# EAGLE library part CYPD3177 (library ds_ic_peripherals)
USB Type-C Port Controller for Power Sinks
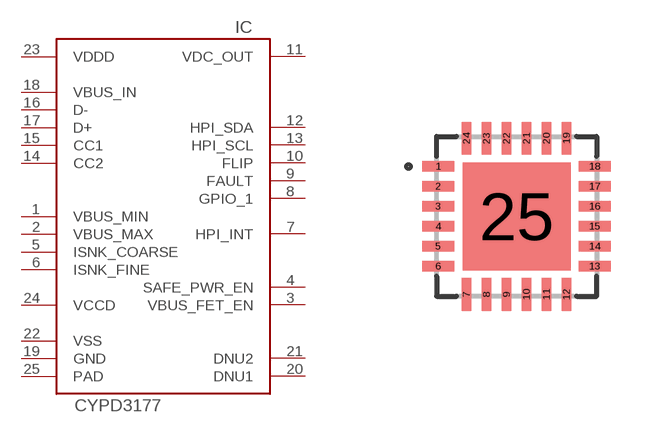
[diagram p53: symbol with the pads of QFN24; footprint QFN24]

Designator prefix IC

## CYPD3177-24LQXQT  [QFN24]
1  VBUS_MIN  in
2  VBUS_MAX  in
3  VBUS_FET_EN  out
4  SAFE_PWR_EN  out
5  ISNK_COARSE  in
6  ISNK_FINE  in
7  HPI_INT  out
8  GPIO_1
9  FAULT  out
10  FLIP  out
11  VDC_OUT  out
12  HPI_SDA
13  HPI_SCL
14  CC2
15  CC1
16  D-
17  D+
18  VBUS_IN  in
19  GND  pwr
20  DNU1  nc
21  DNU2  nc
22  VSS  pwr
23  VDDD  pwr
24  VCCD  pwr
25  PAD  pwr

## Footprint QFN24 (pad centres in mm)
smd 0.81 x 0.26: 1 -1.955,1.25; 2 -1.955,0.75; 3 -1.955,0.25; 4 -1.955,-0.25; 5 -1.955,-0.75; 6 -1.955,-1.25; 13 1.955,-1.25; 14 1.955,-0.75; 15 1.955,-0.25; 16 1.955,0.25; 17 1.955,0.75; 18 1.955,1.25
smd 0.26 x 0.81: 7 -1.25,-1.955; 8 -0.75,-1.955; 9 -0.25,-1.955; 10 0.25,-1.955; 11 0.75,-1.955; 12 1.25,-1.955; 19 1.25,1.955; 20 0.75,1.955; 21 0.25,1.955; 22 -0.25,1.955; 23 -0.75,1.955; 24 -1.25,1.955
smd 2.7 x 2.7: 25 0,0